# Altium schematic symbol library Header 4.SchLib: 1 symbol
Pins are listed as number, name and electrical type; pins without a type are passive.

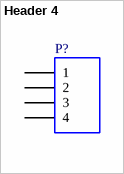
[diagram p0: symbol Header 4]

## Header 4
designator P?
Header, 4-Pin
pins: 1, 2, 3, 4